# EAGLE library part FPC-31WAY (library pimoroni-fpc)
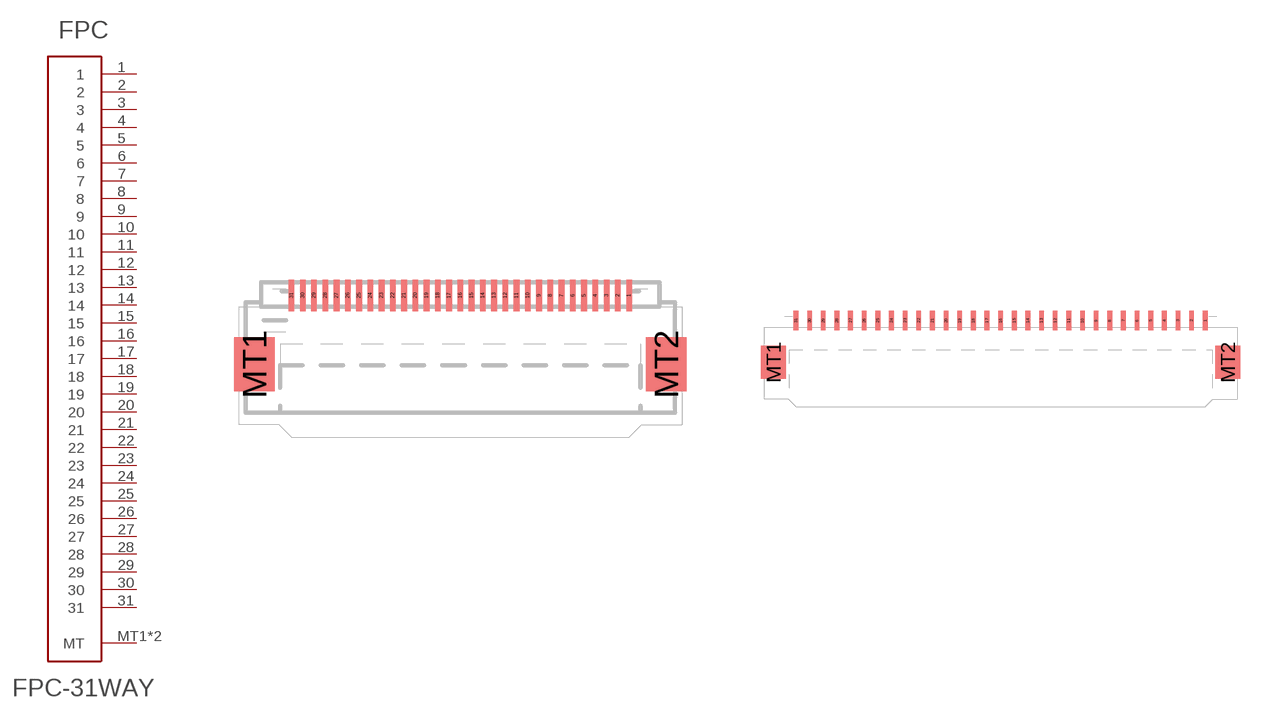
[diagram p26: symbol with the pads of FPC-0.5MM-31WAY; footprints FPC-0.5MM-31WAY, FPC-1.0MM-31WAY]

Designator prefix FPC

## FPC-31WAY0.5  [FPC-0.5MM-31WAY]
1  1
2  2
3  3
4  4
5  5
6  6
7  7
8  8
9  9
10  10
11  11
12  12
13  13
14  14
15  15
16  16
17  17
18  18
19  19
20  20
21  21
22  22
23  23
24  24
25  25
26  26
27  27
28  28
29  29
30  30
31  31
MT1  MT
MT2  MT

## FPC-31WAY1.0  [FPC-1.0MM-31WAY]
Pads as for FPC-0.5MM-31WAY

## Footprint FPC-0.5MM-31WAY (pad centres in mm)
smd 0.25 x 1.4: 1 7.5,0.7; 2 7,0.7; 3 6.5,0.7; 4 6,0.7; 5 5.5,0.7; 6 5,0.7; 7 4.5,0.7; 8 4,0.7; 9 3.5,0.7; 10 3,0.7; 11 2.5,0.7; 12 2,0.7; 13 1.5,0.7; 14 1,0.7; 15 0.5,0.7; 16 0,0.7; 17 -0.5,0.7; 18 -1,0.7; 19 -1.5,0.7; 20 -2,0.7; 21 -2.5,0.7; 22 -3,0.7; 23 -3.5,0.7; 24 -4,0.7; 25 -4.5,0.7; 26 -5,0.7; 27 -5.5,0.7; 28 -6,0.7; 29 -6.5,0.7; 30 -7,0.7; 31 -7.5,0.7
smd 1.8 x 2.4: MT1 -9.15,-2.35; MT2 9.15,-2.35

## Footprint FPC-1.0MM-31WAY (pad centres in mm)
smd 0.35 x 1.4: 1 15,0.7; 2 14,0.7; 3 13,0.7; 4 12,0.7; 5 11,0.7; 6 10,0.7; 7 9,0.7; 8 8,0.7; 9 7,0.7; 10 6,0.7; 11 5,0.7; 12 4,0.7; 13 3,0.7; 14 2,0.7; 15 1,0.7; 16 0,0.7; 17 -1,0.7; 18 -2,0.7; 19 -3,0.7; 20 -4,0.7; 21 -5,0.7; 22 -6,0.7; 23 -7,0.7; 24 -8,0.7; 25 -9,0.7; 26 -10,0.7; 27 -11,0.7; 28 -12,0.7; 29 -13,0.7; 30 -14,0.7; 31 -15,0.7
smd 1.8 x 2.4: MT1 -16.65,-2.35; MT2 16.65,-2.35